# Altium footprint library lianchen_lib.PcbLib: 233 footprints (part 8 of 15)
Each footprint in its own frame and in the unit in brackets; x right, y up, seen from the top. Pads: shape width x height; smd on the part's side, far side on the other; paste and mask are expansions set on the pad; w line width, h text height; cw(c..) or ccw(c..) is an arc to the next point about the centre after c.
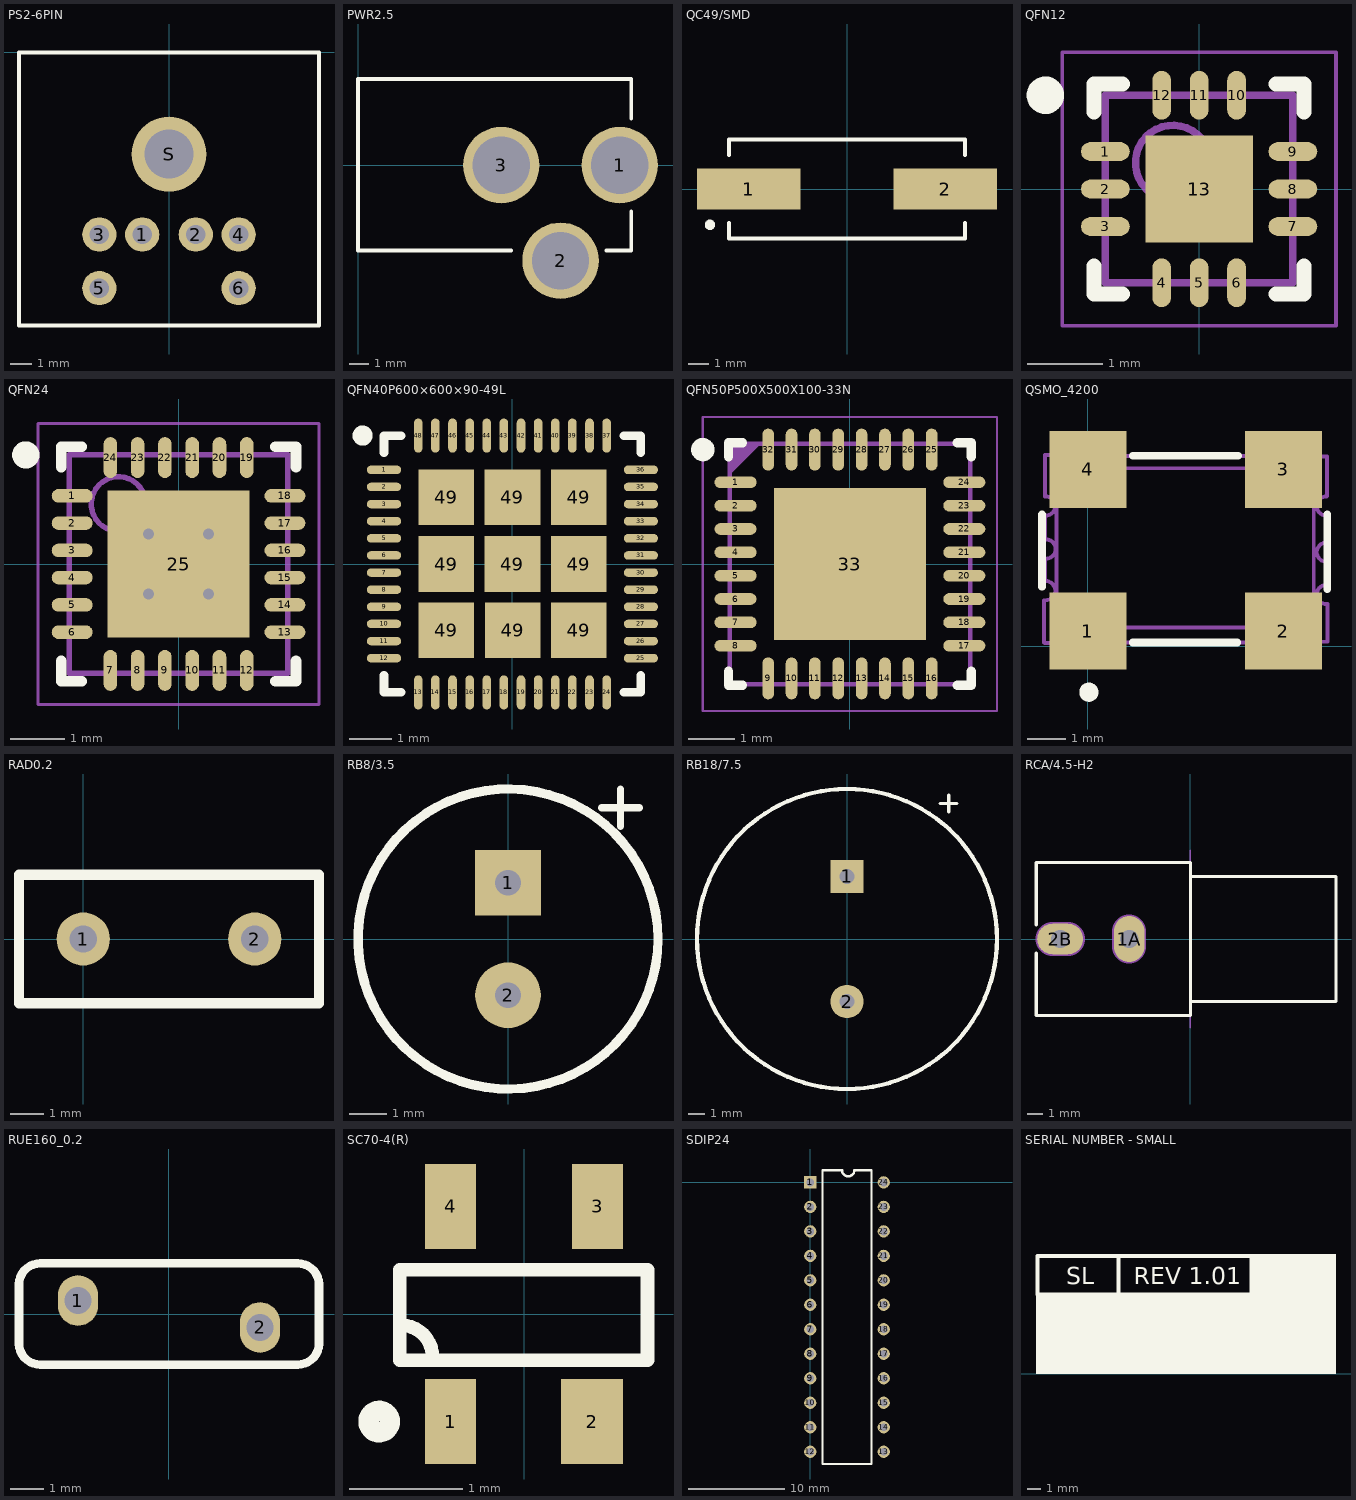
[diagram p7: the footprints below, top view; thin cyan lines are the x and y axes]

## PS2-6PIN [mm]
pads (7):
  round 1.6 hole 0.9: 1(-1.25,-8.5) 2(1.25,-8.5) 3(-3.25,-8.5) 4(3.25,-8.5) 5(-3.25,-11) 6(3.25,-11)
  round 3.5 hole 2.29: S(0,-4.75)
Top Overlay:
  lines w0.2: -7,-12.75 -7,0 7,0 7,-12.75 -7,-12.75

## PWR2.5 [mm]
pads (3):
  round 4 hole 3: 1(13.7,0) 2(10.6,-5) 3(7.5,0)
Top Overlay:
  lines w0.2: 8,-4.475 0,-4.475 0,0.025 0,4.5 14.3,4.5 14.3,2.425 ; 13,-4.475 14.3,-4.475 14.3,-2.425

## QC49/SMD [mm]
pads (2):
  rect 5x2 smd: 1(-4.75,0) 2(4.75,0)
Top Overlay:
  circle w0.25: c-6.625,-1.73 r0.125
  lines w0.2: -5.7,-1.65 -5.7,-2.4 5.7,-2.4 5.7,-1.65 ; -5.7,1.65 -5.7,2.4 5.7,2.4 5.7,1.65

## QFN12 [mm] "QFN, 12-Leads, Body 2.50x2.50mm, Pitch 0.50mm, Thermal Pad 1.46x1.46mm, IPC Medium Density"
height 0.55
pads (13):
  oval 0.65x0.25 smd: 1(-1.25,0.5) 2(-1.25,0) 3(-1.25,-0.5) 7(1.25,-0.5) 8(1.25,0) 9(1.25,0.5)
  oval 0.25x0.65 smd: 4(-0.5,-1.25) 5(0,-1.25) 6(0.5,-1.25) 10(0.5,1.25) 11(0,1.25) 12(-0.5,1.25)
  rect 1.43x1.43 smd: 13(0,0)
Top Overlay:
  circle w0.25: c-2.05,1.25 r0.125
  lines w0.2: -1.4,-1.025 -1.4,-1.4 -1.025,-1.4 ; -1.4,1.025 -1.4,1.4 -1.025,1.4 ; 1.025,-1.4 1.4,-1.4 1.4,-1.025 ; 1.025,1.4 1.4,1.4 1.4,1.025
Mechanical 13:
  circle w0.1: c-0.35,0.35 r0.5
  lines w0.1: -1.25,-1.25 -1.25,1.25 1.25,1.25 1.25,-1.25 -1.25,-1.25
Mechanical 15:
  lines w0.05: -1.825,-1.825 -1.825,1.825 1.825,1.825 1.825,-1.825 -1.825,-1.825
  lines w0.1: -0.5,0 0.5,0 ; 0,-0.5 0,0.5
3D body: height 0.55, standoff 0.02, extent -1.25,-1.25 1.25,1.25

## QFN24 [mm] "QFN, 24-Leads, Body 4.00x4.00mm, Pitch 0.50mm, Thermal Pad 2.60x2.70mm, IPC Medium Density"
height 0.9
pads (25):
  oval 0.75x0.25 smd: 1(-1.95,1.25) 2(-1.95,0.75) 3(-1.95,0.25) 4(-1.95,-0.25) 5(-1.95,-0.75) 6(-1.95,-1.25) 13(1.95,-1.25) 14(1.95,-0.75) 15(1.95,-0.25) 16(1.95,0.25) 17(1.95,0.75) 18(1.95,1.25)
  oval 0.25x0.75 smd: 7(-1.25,-1.95) 8(-0.75,-1.95) 9(-0.25,-1.95) 10(0.25,-1.95) 11(0.75,-1.95) 12(1.25,-1.95) 19(1.25,1.95) 20(0.75,1.95) 21(0.25,1.95) 22(-0.25,1.95) 23(-0.75,1.95) 24(-1.25,1.95)
  rect 2.6x2.7 smd: 25(0,0)
via 0.55,-0.55 diameter 0.5 hole 0.2
via -0.55,-0.55 diameter 0.5 hole 0.2
via 0.55,0.55 diameter 0.5 hole 0.2
via -0.55,0.55 diameter 0.5 hole 0.2
Top Overlay:
  circle w0.25: c-2.8,2 r0.125
  lines w0.2: -2.15,-1.775 -2.15,-2.15 -1.775,-2.15 ; -2.15,1.775 -2.15,2.15 -1.775,2.15 ; 1.775,-2.15 2.15,-2.15 2.15,-1.775 ; 1.775,2.15 2.15,2.15 2.15,1.775
Mechanical 13:
  circle w0.1: c-1.1,1.1 r0.5
  lines w0.1: -2,-2 2,-2 2,2 -2,2 -2,-2
Mechanical 15:
  lines w0.05: -2.575,-2.575 2.575,-2.575 2.575,2.575 -2.575,2.575 -2.575,-2.575
  lines w0.1: -0.5,0 0.5,0 ; 0,-0.5 0,0.5
3D body: height 0.9, standoff 0.01, extent -2,-2 2,2

## QFN40P600×600×90-49L [mm]
height 0.9
pads (57):
  oval 0.8x0.2 smd: 1(-3,2.2) 2(-3,1.8) 3(-3,1.4) 4(-3,1) 5(-3,0.6) 6(-3,0.2) 7(-3,-0.2) 8(-3,-0.6) 9(-3,-1) 10(-3,-1.4) 11(-3,-1.8) 12(-3,-2.2) 25(3,-2.2) 26(3,-1.8) 27(3,-1.4) 28(3,-1) 29(3,-0.6) 30(3,-0.2) 31(3,0.2) 32(3,0.6) 33(3,1) 34(3,1.4) 35(3,1.8) 36(3,2.2)
  oval 0.2x0.8 smd: 13(-2.2,-3) 14(-1.8,-3) 15(-1.4,-3) 16(-1,-3) 17(-0.6,-3) 18(-0.2,-3) 19(0.2,-3) 20(0.6,-3) 21(1,-3) 22(1.4,-3) 23(1.8,-3) 24(2.2,-3) 37(2.2,3) 38(1.8,3) 39(1.4,3) 40(1,3) 41(0.6,3) 42(0.2,3) 43(-0.2,3) 44(-0.6,3) 45(-1,3) 46(-1.4,3) 47(-1.8,3) 48(-2.2,3)
  rect 1.3x1.3 smd: 49(-1.55,-1.55) 49(-1.55,0) 49(-1.55,1.56) 49(0,0) 49(0,1.56) 49(0.01,-1.55) 49(1.55,-1.55) 49(1.55,0) 49(1.55,1.56)
Top Overlay:
  circle w0.254: c-3.5,3 r0.108
  lines w0.2: -3,-2.6 -3,-3 -2.6,-3 ; -3,2.6 -3,3 -2.6,3 ; 2.6,-3 3,-3 3,-2.6 ; 2.6,3 3,3 3,2.6

## QFN50P500X500X100-33N [mm]
height 1
pads (33):
  oval 0.9x0.25 smd: 1(-2.45,1.75) 2(-2.45,1.25) 3(-2.45,0.75) 4(-2.45,0.25) 5(-2.45,-0.25) 6(-2.45,-0.75) 7(-2.45,-1.25) 8(-2.45,-1.75) 17(2.45,-1.75) 18(2.45,-1.25) 19(2.45,-0.75) 20(2.45,-0.25) 21(2.45,0.25) 22(2.45,0.75) 23(2.45,1.25) 24(2.45,1.75)
  oval 0.25x0.9 smd: 9(-1.75,-2.45) 10(-1.25,-2.45) 11(-0.75,-2.45) 12(-0.25,-2.45) 13(0.25,-2.45) 14(0.75,-2.45) 15(1.25,-2.45) 16(1.75,-2.45) 25(1.75,2.45) 26(1.25,2.45) 27(0.75,2.45) 28(0.25,2.45) 29(-0.25,2.45) 30(-0.75,2.45) 31(-1.25,2.45) 32(-1.75,2.45)
  rect 3.25x3.25 smd: 33(0,0)
Top Overlay:
  circle w0.25: c-3.15,2.45 r0.125
  lines w0.2: -2.6,-2.3 -2.6,-2.6 -2.3,-2.6 ; -2.6,2.3 -2.6,2.6 -2.3,2.6 ; 2.3,-2.6 2.6,-2.6 2.6,-2.3 ; 2.3,2.6 2.6,2.6 2.6,2.3
Top Paste:
  region: -0.975,0.975 0.975,0.975 0.975,-0.975 -0.975,-0.975
Mechanical 15:
  lines w0.1: -2.575,1.975 -1.975,2.575 ; -2.575,2.075 -2.075,2.575 ; -2.575,2.175 -2.175,2.575 ; -2.575,2.275 -2.275,2.575 ; -2.575,2.375 -2.375,2.575 ; -2.575,2.475 -2.475,2.575 ; -2.575,-2.575 -2.575,2.575 2.575,2.575 2.575,-2.575 -2.575,-2.575
  text "1" at -0.164,-0.45 h0.75
Mechanical 16:
  lines w0.001: -2.575,-2.575 -2.575,2.575 2.575,2.575 2.575,-2.575 -2.575,-2.575
  lines w0.05: -0.5,0 0.5,0 ; 0,-0.5 0,0.5 ; -3.15,-3.15 -3.15,3.15 3.15,3.15 3.15,-3.15 -3.15,-3.15

## QSMO_4200 [mm]
pads (4):
  rect 2x2 smd: 1(0,0.4) 2(5.08,0.4) 3(5.08,4.6) 4(0,4.6)
Top Overlay:
  circle w0.25: c0.025,-1.19 r0.125
  lines w0.2: -1.194,1.549 -1.194,3.429 ; 1.162,4.953 3.912,4.953 ; 1.168,0.102 3.886,0.102 ; 6.223,1.489 6.223,3.429
Mechanical 15:
  lines w0.1: -1.143,0.102 -1.143,1.194 ; -1.12,0.09 -0.27,0.09 -0.29,0.11 ; -1.12,3.9 -1.12,4.98 -0.26,4.98 ; -1.118,1.702 -1.118,2.286 ; -1.118,2.794 -1.118,3.378 ; -1.1,1.2 ccw(c-1.1,1.45) -1.1,1.7 ; -1.1,3.4 ccw(c-1.1,3.65) -1.1,3.9 ; -1.09,2.28 ccw(c-1.09,2.53) -1.09,2.78 ; -0.83,0.49 5.87,0.49 5.87,4.63 -0.82,4.63 -0.82,3.91 -0.82,0.51 ; -0.3,0.15 cw(c-0.05,0.15) 0.2,0.15 ; -0.23,4.91 ccw(c0.02,4.91) 0.27,4.91 ; 0.19,0.1 4.78,0.1 ; 0.25,4.95 4.87,4.95 ; 4.8,0.16 cw(c5.05,0.16) 5.3,0.16 ; 4.88,4.91 ccw(c5.13,4.91) 5.38,4.91 ; 5.29,0.12 6.23,0.12 6.23,1.1 ; 5.35,4.94 6.22,4.94 6.22,3.91 ; 6.198,1.62 6.198,2.184 ; 6.2,1.1 cw(c6.2,1.35) 6.2,1.6 ; 6.2,2.2 cw(c6.2,2.45) 6.2,2.7 ; 6.2,3.4 cw(c6.2,3.65) 6.2,3.9 ; 6.223,2.704 6.223,3.378

## RAD0.2 [mil]
pads (2):
  round 62 hole 32: 1(0,0) 2(200,0)
Top Overlay:
  lines w12: -75,-75 275,-75 275,75 -75,75 -75,-75

## RB8/3.5 [mil]
pads (2):
  rect 70x70 hole 27.56: 1(0,60)
  round 70 hole 27.56: 2(0,-60)
Top Overlay:
  circle w10: c0,0 r160
  lines w7.87: 100,140 140,140 ; 120,120 120,160

## RB18/7.5 [mm]
pads (2):
  rect 2x2 hole 0.9: 1(0,3.75)
  round 2 hole 0.9: 2(0,-3.75)
Top Overlay:
  circle w0.254: c0,0 r9
  lines w0.2: 5.588,8.128 6.604,8.128 ; 6.096,7.62 6.096,8.636

## RCA/4.5-H2 [mm]
pads (2):
  oval 2x3 hole 1.2: 1A(-4,0)
  oval 3x2 hole 1.2: 2B(-8.496,0)
Top Overlay:
  lines w0.2: -10.075,5 -0.018,5 ; -10.057,-0.92 -10.057,-5 0,-5 0,5 ; -10.057,0.92 -10.057,5 ; 0,-4.065 9.5,-4.065 9.5,4.065 0,4.065
Mechanical 1:
  lines w0.1: 0,-5.8 0,5.8
  lines w1.2: -8.996,0 -7.996,0 ; -4,-0.5 -4,0.5
  text "PCB Edge" at -0.333,-4.618 h0.25
  text "Alert PCB fab to slot details" at -10.057,7.842 h0.3
  text "Slot 1.2x2.2mm, PTH" at -10.057,7.342 h0.3
  text "Assign keep-out area to slot" at -10.057,8.342 h0.3
  text "Mech 1 - Slot cut-out" at -10.057,6.842 h0.3
  text "Mech 2 - Clearance, move to internal plane if present" at -10.057,6.342 h0.3
Mechanical 2:
  lines w2.216: -8.996,0 -7.996,0 ; -4,-0.5 -4,0.5

## RUE160_0.2 [mm]
pads (2):
  oval 1.2x1.5 hole 0.8: 1(-2.7,0.4) 2(2.7,-0.4)
Top Overlay:
  lines w0.254: -4.45,-0.889 ccw(c-3.827,-0.877) -3.815,-1.5 3.815,-1.5 ccw(c3.827,-0.877) 4.45,-0.889 4.45,0.889 ccw(c3.827,0.877) 3.815,1.5 -3.815,1.5 ccw(c-3.827,0.877) -4.45,0.889 -4.45,-0.889
3D body: height 12, standoff 0, extent -4.451,-1.503 4.451,1.503

## SC70-4(R) [mm]
height 1.1
pads (4):
  rect 0.45x0.75 smd: 1(-0.65,-0.95) 3(0.65,0.95) 4(-0.65,0.95)
  rect 0.55x0.75 smd: 2(0.6,-0.95)
Top Overlay:
  circle w0.18: c-1.28,-0.95 r0.094
  lines w0.12: -1.1,-0.41 1.09,-0.41 1.09,0.39 -1.1,0.39 -1.1,-0.4 ; -1.08,-0.1 cw(c-1.085,-0.375) -0.81,-0.38

## SDIP24 [mil]
pads (24):
  rect 50x50 hole 32: 1(0,0)
  round 50 hole 32: 2(0,-100) 3(0,-200) 4(0,-300) 5(0,-400) 6(0,-500) 7(0,-600) 8(0,-700) 9(0,-800) 10(0,-900) 11(0,-1000) 12(0,-1100) 13(300,-1100) 14(300,-1000) 15(300,-900) 16(300,-800) 17(300,-700) 18(300,-600) 19(300,-500) 20(300,-400) 21(300,-300) 22(300,-200) 23(300,-100) 24(300,0)
Top Overlay:
  lines w10: 50,-1150 250,-1150 250,50 180,50 cw(c155,50) 130,50 50,50 50,-1150

## SERIAL NUMBER - SMALL [mm]
Top Overlay:
  rectangle: 2.807,-0.01 19.19,6.117
  rectangle: 19.052,-0.01 25.402,9.007
  lines w0.3: 9.019,5.959 9.019,8.88 ; 2.923,5.959 2.923,8.88 19.052,8.88 19.052,5.959 2.923,5.959
  text "SL" at 5.082,6.721 h1.3
  text "REV 1.01" at 10.162,6.721 h1.3